# Altium integrated library ON Semi Signal Management Data Switches.IntLib: 121 symbols (part 3 of 4)
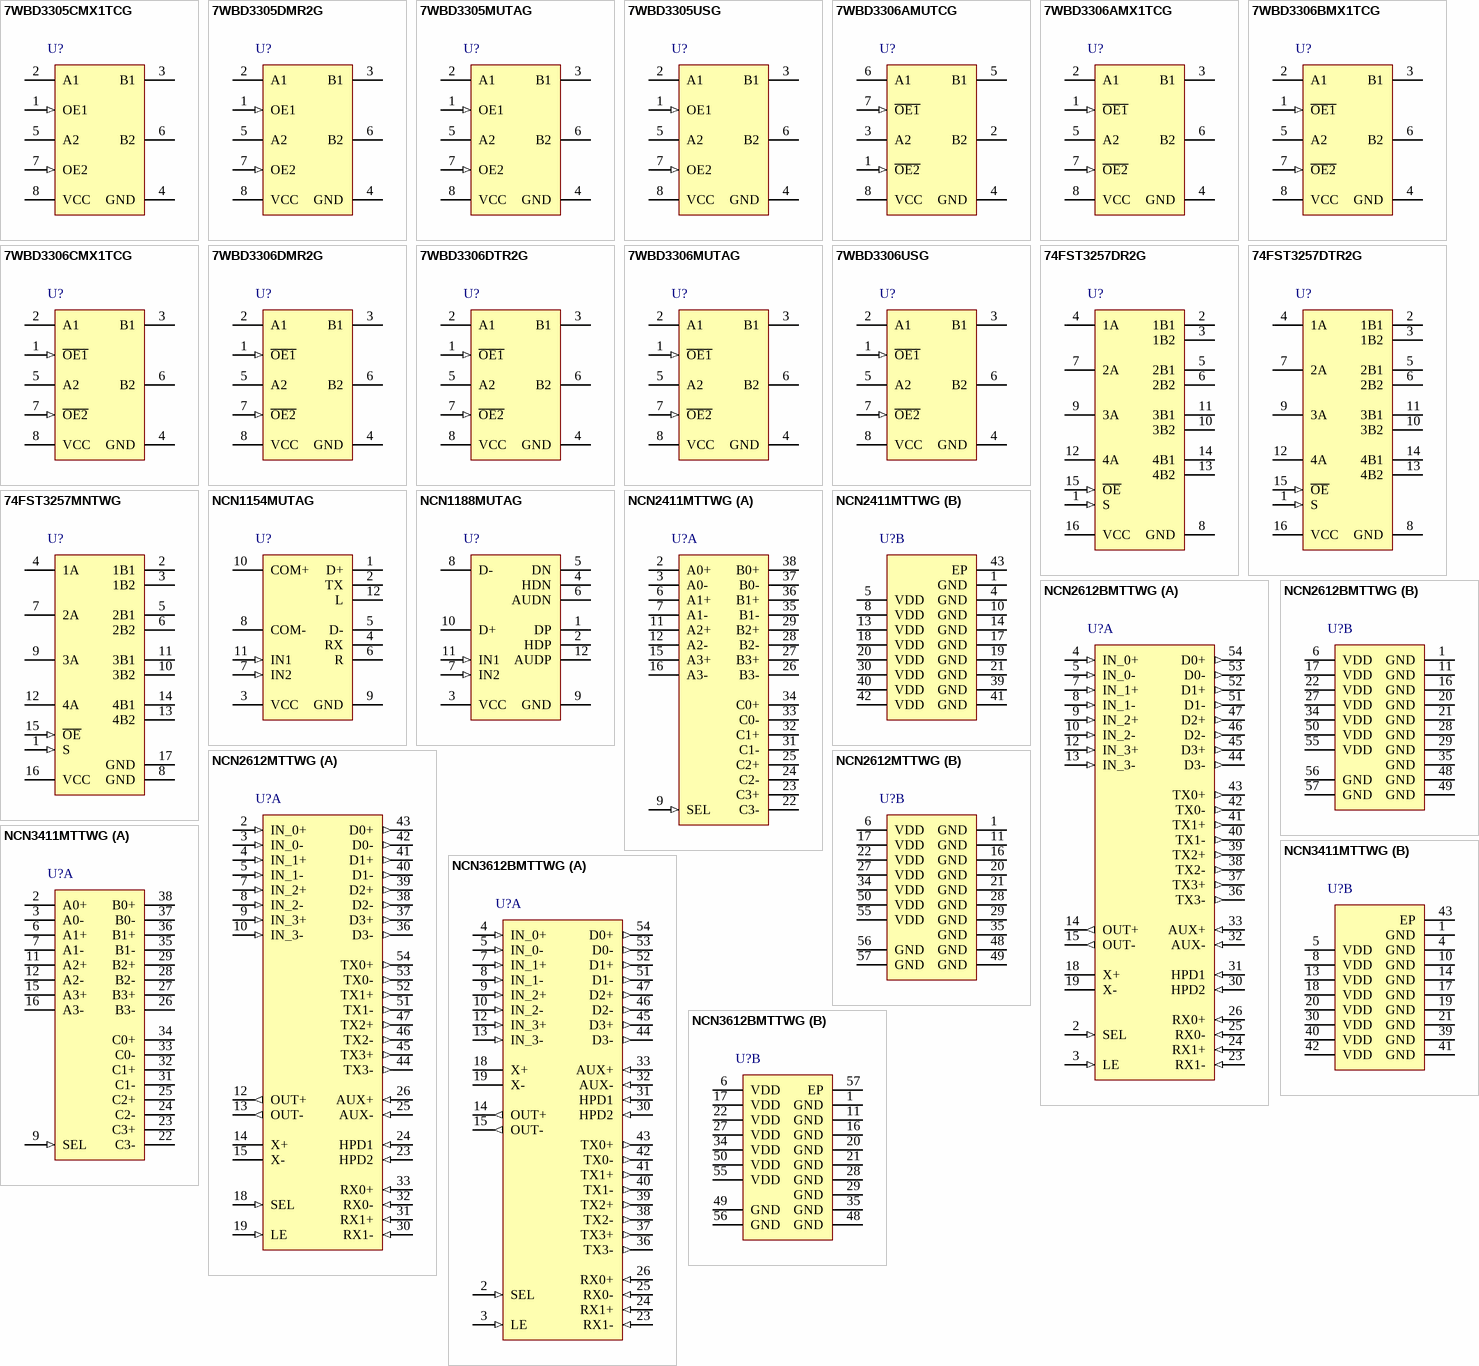
[diagram p5: symbols 7WBD3305CMX1TCG to NCN3612BMTTWG]

## 74FST3257DR2G
designator U?
Quad 2:1 Multiplexer / Demultiplexer Bus Switch, 4 to 5.5 V, -40 to 85 degC, 16-Pin SOIC, Pb-Free, Tape and Reel; Manufacturer: On Semiconductor; PartNumber: 74FST3257DR2G; Icc Max (uA): 3; VCC Max (V): 5.5; VCC Min (V): 4; DatasheetVersion: Rev. 7; PackageVersion: Rev. K, 12/2006; PackageReference: SOIC-16-751B-05; PackageDescription: 16-Pin Small Outline Integrated Circuit, Body 9.9 x 3.9 mm, Pitch 1.27 mm; Supplier 1: Digi-Key; Supplier Part Number 1: 74FST3257DR2GOSTR-ND; Supplier 2: Digi-Key; Supplier Part Number 2: 74FST3257DR2GOSCT-ND; Supplier 3: Digi-Key; Supplier Part Number 3: 74FST3257DR2GOSDKR-ND; Supplier 4: Newark; Supplier Part Number 4: 70K7573; Supplier 5: Mouser; Supplier Part Number 5: 863-74FST3257DR2G; Packing: Tape and Reel; RoHS: TRUE; Mounting Technology: Surface Mount; ComponentLink1Description: Manufacturer URL; ComponentLink1URL: http://www.onsemi.com/; ComponentLink2Description: Datasheet; ComponentLink2URL: http://www.onsemi.com/pub_link/Collateral/74FST3257-D.PDF; ComponentLink3Description: Package Specification; ComponentLink3URL: http://www.onsemi.com/pub_link/Collateral/751B-05.PDF
footprint ONSC-SOIC-16-751B-05_V (SOIC, 16-Leads, Body 10x4mm, Pitch 1.27mm)
pins: 1 S (in) "Select Input", 2 1B1 "Bus B", 3 1B2 "Bus B", 4 1A "Bus A", 5 2B1 "Bus B", 6 2B2 "Bus B", 7 2A "Bus A", 8 GND (power), 9 3A "Bus A", 10 3B2 "Bus B", 11 3B1 "Bus B", 12 4A "Bus A", 13 4B2 "Bus B", 14 4B1 "Bus B", 15 ~{OE} (in) "Bus Switch Enable", 16 VCC (power)

## 74FST3257DTR2G
designator U?
Quad 2:1 Multiplexer / Demultiplexer Bus Switch, 4 to 5.5 V, -40 to 85 degC, 16-Pin TSSOP, Pb-Free, Tape and Reel; Manufacturer: On Semiconductor; PartNumber: 74FST3257DTR2G; Icc Max (uA): 3; VCC Max (V): 5.5; VCC Min (V): 4; DatasheetVersion: Rev. 7; PackageVersion: Rev. B, 10/2006; PackageReference: TSSOP-16-948F-01; PackageDescription: 16-Pin Small Outline Package, Body 5 x 4.4 mm, Pitch 0.65 mm; Supplier 1: Digi-Key; Supplier Part Number 1: 74FST3257DTR2GOSTR-ND; Supplier 2: Digi-Key; Supplier Part Number 2: 74FST3257DTR2GOSCT-ND; Supplier 3: Digi-Key; Supplier Part Number 3: 74FST3257DTR2GOSDKR-ND; Supplier 4: Newark; Supplier Part Number 4: 70K7574; Supplier 5: Mouser; Supplier Part Number 5: 863-74FST3257DTR2G; Packing: Tape and Reel; RoHS: TRUE; Mounting Technology: Surface Mount; ComponentLink1Description: Manufacturer URL; ComponentLink1URL: http://www.onsemi.com/; ComponentLink2Description: Datasheet; ComponentLink2URL: http://www.onsemi.com/pub_link/Collateral/74FST3257-D.PDF; ComponentLink3Description: Package Specification; ComponentLink3URL: http://www.onsemi.com/pub_link/Collateral/948F-01.PDF
footprint ONSC-TSSOP-16-948F-01_V (SOP, 16-Leads, Body 5.1x4.5mm, Pitch 0.65mm)
pins: 1 S (in) "Select Input", 2 1B1 "Bus B", 3 1B2 "Bus B", 4 1A "Bus A", 5 2B1 "Bus B", 6 2B2 "Bus B", 7 2A "Bus A", 8 GND (power), 9 3A "Bus A", 10 3B2 "Bus B", 11 3B1 "Bus B", 12 4A "Bus A", 13 4B2 "Bus B", 14 4B1 "Bus B", 15 ~{OE} (in) "Bus Switch Enable", 16 VCC (power)

## 74FST3257MNTWG
designator U?
Quad 2:1 Multiplexer / Demultiplexer Bus Switch, 4 to 5.5 V, -40 to 85 degC, 16-Pin QFN , Pb-Free, Tape and Reel; Manufacturer: On Semiconductor; PartNumber: 74FST3257MNTWG; Icc Max (uA): 3; VCC Max (V): 5.5; VCC Min (V): 4; DatasheetVersion: Rev. 7; PackageVersion: Rev. O, 12/2008; PackageReference: QFN-16-485AW-01; PackageDescription: 16-Pin Quad Flat No-Lead, Body 2.5 x 3.5 mm, Pitch 0.5 mm; Supplier 1: Digi-Key; Supplier Part Number 1: 74FST3257MNTWG-ND; Supplier 2: Mouser; Supplier Part Number 2: 863-74FST3257MNTWG; Packing: Tape and Reel; RoHS: TRUE; Mounting Technology: Surface Mount; ComponentLink1Description: Manufacturer URL; ComponentLink1URL: http://www.onsemi.com/; ComponentLink2Description: Datasheet; ComponentLink2URL: http://www.onsemi.com/pub_link/Collateral/74FST3257-D.PDF; ComponentLink3Description: Package Specification; ComponentLink3URL: http://www.onsemi.com/pub_link/Collateral/485AW.PDF
footprint ONSC-QFN-16-485AW-01_V (QFN, 16-Leads, Body 3.5x2.5mm, Pitch 0.5mm, Thermal Pad 1.1x2.1mm)
pins: 1 S (in) "Select Input", 2 1B1 "Bus B", 3 1B2 "Bus B", 4 1A "Bus A", 5 2B1 "Bus B", 6 2B2 "Bus B", 7 2A "Bus A", 8 GND (power), 9 3A "Bus A", 10 3B2 "Bus B", 11 3B1 "Bus B", 12 4A "Bus A", 13 4B2 "Bus B", 14 4B1 "Bus B", 15 ~{OE} (in) "Bus Switch Enable", 16 VCC (power), 17 GND (power)

## NCN1154MUTAG
designator U?
USB 2.0 High Speed, UART and Audio Switch with Negative Signal Capability, 2.7 to 5 V, -40 to 85 degC, 12-Pin UQFN, Pb-Free, Tape and Reel; Manufacturer: On Semiconductor; PartNumber: NCN1154MUTAG; Icc Max (uA): 35; VCC Max (V): 5; VCC Min (V): 2.7; DatasheetVersion: Rev. 4; PackageVersion: Rev. A, 06/2007; PackageReference: UQFN-12-523AE-01; PackageDescription: 12-Pin Quad Flat No-Lead, Body 1.7 x 2 mm, Pitch 0.4 mm; Supplier 1: Digi-Key; Supplier Part Number 1: NCN1154MUTAGOSTR-ND; Supplier 2: Digi-Key; Supplier Part Number 2: NCN1154MUTAGOSCT-ND; Supplier 3: Digi-Key; Supplier Part Number 3: NCN1154MUTAGOSDKR-ND; Supplier 4: Mouser; Supplier Part Number 4: 863-NCN1154MUTAG; Packing: Tape and Reel; RoHS: TRUE; Mounting Technology: Surface Mount; ComponentLink1Description: Manufacturer URL; ComponentLink1URL: http://www.onsemi.com/; ComponentLink2Description: Datasheet; ComponentLink2URL: http://www.onsemi.com/pub_link/Collateral/NCN1154-D.PDF; ComponentLink3Description: Package Specification; ComponentLink3URL: http://www.onsemi.com/pub_link/Collateral/523AE.PDF
footprint ONSC-UQFN-12-523AE-01_V (QFN, 12-Leads, Body 2x1.7mm, Pitch 0.4mm)
pins: 1 D+ "Positive Data Line for USB Signals", 2 TX "Transmit Data Line for UART Signals", 3 VCC (power) "Power Supply", 4 RX "Receive Data Line for UART Signals", 5 D- "Negative Data Line for USB Signals", 6 R "Right Line for Audio Signals", 7 IN2 (in) "Control Input Select Line", 8 COM- "Right Audio / Negative Data Common Line", 9 GND (power) "Ground", 10 COM+ "Left Audio / Positive Data Common Line", 11 IN1 (in) "Control Input Select Line", 12 L "Right Line for Audio Signals"

## NCN1188MUTAG
designator U?
3:1 High Speed USB Switch with Audio and MHL Capability, 2.7 to 5.5 V, -40 to 85 degC, 12-Pin UQFN, Pb-Free, Tape and Reel; Manufacturer: On Semiconductor; PartNumber: NCN1188MUTAG; Icc Max (uA): 35; VCC Max (V): 5.5; VCC Min (V): 2.7; DatasheetVersion: Rev. 3; PackageVersion: Rev. A, 06/2007; PackageReference: UQFN-12-523AE-01; PackageDescription: 12-Pin Quad Flat No-Lead, Body 1.7 x 2 mm, Pitch 0.4 mm; Supplier 1: Digi-Key; Supplier Part Number 1: NCN1188MUTAGOSTR-ND; Supplier 2: Digi-Key; Supplier Part Number 2: NCN1188MUTAGOSCT-ND; Supplier 3: Digi-Key; Supplier Part Number 3: NCN1188MUTAGOSDKR-ND; Supplier 4: Newark; Supplier Part Number 4: 76T6308; Supplier 5: Mouser; Supplier Part Number 5: 863-NCN1188MUTAG; Packing: Tape and Reel; RoHS: TRUE; Mounting Technology: Surface Mount; ComponentLink1Description: Manufacturer URL; ComponentLink1URL: http://www.onsemi.com/; ComponentLink2Description: Datasheet; ComponentLink2URL: http://www.onsemi.com/pub_link/Collateral/NCN1188-D.PDF; ComponentLink3Description: Package Specification; ComponentLink3URL: http://www.onsemi.com/pub_link/Collateral/523AE.PDF
footprint ONSC-UQFN-12-523AE-01_V (QFN, 12-Leads, Body 2x1.7mm, Pitch 0.4mm)
pins: 1 DP "USB Positive Path. If active, this pin is connected to D+ pin.", 2 HDP "HD Positive Path. If active, this pin is connected to D+ pin.", 3 VCC (power) "Analog Supply. This pin is the analog and digital supply of the device. A 100 nF ceramic capacitor or larger must bypass this input to the ground. This capacitor should be placed as close a possible to this input.", 4 HDN "HD Negative Path. If active, this pin is connected to D? pin.", 5 DN "USB Negative Path. If active, this pin is connected to D? pin.", 6 AUDN "Audio N. If active, this pin is connected to D? pin.", 7 IN2 (in) "Input Selection 2. Do not float this pin.", 8 D- "Negative data line. Must be connected to the D? pin of USB receptacle.", 9 GND (power) "Ground Reference. Must be connected to the system ground.", 10 D+ "Positive data line. Must be connected to the D+ pin of USB receptacle.", 11 IN1 (in) "Input Selection 1. Do not float this pin.", 12 AUDP "Audio P. If active, this pin is connected to D+ pin."

## NCN2411MTTWG
designator U?
4-Channel Differential 1:2 Mux / Demux Switch for PCI Express Gen2, 1.5 to 2 V, -40 to 85 degC, 42-Pin WQFN, Pb-Free, Tape and Reel; Manufacturer: On Semiconductor; PartNumber: NCN2411MTTWG; Icc Max (uA): 300; VCC Max (V): 2; VCC Min (V): 1.5; DatasheetVersion: Rev. 0; PackageVersion: Rev. O, 02/2010; PackageReference: WQFN-42-510AP-01; PackageDescription: 42-Pin Quad Flat No-Lead, Body 3.5 x 9 mm, Pitch 0.5 mm; Supplier 1: Digi-Key; Supplier Part Number 1: NCN2411MTTWG-ND; Supplier 2: Newark; Supplier Part Number 2: 76T6309; Supplier 3: Mouser; Supplier Part Number 3: 863-NCN2411MTTWG; Packing: Tape and Reel; RoHS: TRUE; Mounting Technology: Surface Mount; ComponentLink1Description: Manufacturer URL; ComponentLink1URL: http://www.onsemi.com/; ComponentLink2Description: Datasheet; ComponentLink2URL: http://www.onsemi.com/pub_link/Collateral/NCN2411-D.PDF; ComponentLink3Description: Package Specification; ComponentLink3URL: http://www.onsemi.com/pub_link/Collateral/510AP.PDF
footprint ONSC-WQFN-42-510AP-01_V (QFN, 42-Leads, Body 9x3.5mm, Pitch 0.5mm, Thermal Pad 2.16x7.66mm)
part A pins: 2 A0+ "Signal I/O, Channel 0, Port A", 3 A0- "Signal I/O, Channel 0, Port A", 6 A1+ "Signal I/O, Channel 1, Port A", 7 A1- "Signal I/O, Channel 1, Port A", 9 SEL (in) "Operational Mode Select (When SEL = 0: A ¡ú B, When SEL = 1: A ¡ú C) Do not float this pin.", 11 A2+ "Signal I/O, Channel 2, Port A", 12 A2- "Signal I/O, Channel 2, Port A", 15 A3+ "Signal I/O, Channel 3, Port A", 16 A3- "Signal I/O, Channel 3, Port A", 22 C3- "Signal I/O, Channel 3, Port C", 23 C3+ "Signal I/O, Channel 3, Port C", 24 C2- "Signal I/O, Channel 2, Port C", 25 C2+ "Signal I/O, Channel 2, Port C", 26 B3- "Signal I/O, Channel 3, Port B", 27 B3+ "Signal I/O, Channel 3, Port B", 28 B2- "Signal I/O, Channel 2, Port B", 29 B2+ "Signal I/O, Channel 2, Port B", 31 C1- "Signal I/O, Channel 1, Port C", 32 C1+ "Signal I/O, Channel 1, Port C", 33 C0- "Signal I/O, Channel 0, Port C", 34 C0+ "Signal I/O, Channel 0, Port C", 35 B1- "Signal I/O, Channel 1, Port B", 36 B1+ "Signal I/O, Channel 1, Port B", 37 B0- "Signal I/O, Channel 0, Port B", 38 B0+ "Signal I/O, Channel 0, Port B"
part B pins: 1 GND (power) "Power Ground", 4 GND (power) "Power Ground", 5 VDD (power) "DC Supply: 1.5 V to 2.0 V", 8 VDD (power) "DC Supply: 1.5 V to 2.0 V", 10 GND (power) "Power Ground", 13 VDD (power) "DC Supply: 1.5 V to 2.0 V", 14 GND (power) "Power Ground", 17 GND (power) "Power Ground", 18 VDD (power) "DC Supply: 1.5 V to 2.0 V", 19 GND (power) "Power Ground", 20 VDD (power) "DC Supply: 1.5 V to 2.0 V", 21 GND (power) "Power Ground", 30 VDD (power) "DC Supply: 1.5 V to 2.0 V", 39 GND (power) "Power Ground", 40 VDD (power) "DC Supply: 1.5 V to 2.0 V", 41 GND (power) "Power Ground", 42 VDD (power) "DC Supply: 1.5 V to 2.0 V", 43 EP (power) "The exposed pad on the backside of package is internally connected to GND. Externally the pad should also be user?connected to GND."

## NCN2612BMTTWG
designator U?
6-Channel Differential 1:2 Switch for PCIe 2 and Display Port 1.1, 3 to 3.6 V, -40 to 85 degC, 56-Pin WQFN, Pb-Free, Tape and Reel; Manufacturer: On Semiconductor; PartNumber: NCN2612BMTTWG; Icc Max (uA): 350; VCC Max (V): 3.6; VCC Min (V): 3; DatasheetVersion: Rev. 0; PackageVersion: Rev. A, 03/2010; PackageReference: WQFN-56-510AK-01; PackageDescription: 56-Pin Quad Flat No-Lead, Body 5 x 11 mm, Pitch 0.5 mm; Supplier 1: Digi-Key; Supplier Part Number 1: NCN2612BMTTWG-ND; Supplier 2: Mouser; Supplier Part Number 2: 863-NCN2612BMTTWG; Packing: Tape and Reel; RoHS: TRUE; Mounting Technology: Surface Mount; ComponentLink1Description: Manufacturer URL; ComponentLink1URL: http://www.onsemi.com/; ComponentLink2Description: Datasheet; ComponentLink2URL: http://www.onsemi.com/pub_link/Collateral/NCN2612B-D.PDF; ComponentLink3Description: Package Specification; ComponentLink3URL: http://www.onsemi.com/pub_link/Collateral/510AK.PDF
footprint ONSC-WQFN-56-510AK-01_V (QFN, 56-Leads, Body 11x5mm, Pitch 0.5mm, Thermal Pad 2.5x8.5mm)
part A pins: 2 SEL (in) "SEL controls the mux through a flow?through latch. Do not float this pin. SEL = 0 for PCIE Mode; SEL = 1 for DP Mode", 3 LE (in) "LE controls the latch gate. Do not float this pin", 4 IN_0+ (in) "Differential input from GMCH PCIE outputs. IN_0+ makes a differential pair with IN_0?.", 5 IN_0- (in) "Differential input from GMCH PCIE outputs. IN_0? makes a differential pair with IN_0+.", 7 IN_1+ (in) "Differential input from GMCH PCIE outputs. IN_1+ makes a differential pair with IN_1?.", 8 IN_1- (in) "Differential input from GMCH PCIE outputs. IN_1? makes a differential pair with IN_1+.", 9 IN_2+ (in) "Differential input from GMCH PCIE outputs. IN_2+ makes a differential pair with IN_2?.", 10 IN_2- (in) "Differential input from GMCH PCIE outputs. IN_2? makes a differential pair with IN_2+.", 12 IN_3+ (in) "Differential input from GMCH PCIE outputs. IN_3+ makes a differential pair with IN_3?.", 13 IN_3- (in) "Differential input from GMCH PCIE outputs. IN_3? makes a differential pair with IN_3+.", 14 OUT+ (out) "Pass?through output from AUX+ input when SEL = 1. Pass?through output from Rx0+ input when SEL = 0.", 15 OUT- (out) "Pass?through output from AUX? input when SEL = 1. Pass?through output from Rx0? input when SEL = 0.", 18 X+ "X+ is an analog pass?through output corresponding to Rx1+.", 19 X- "X? is an analog pass?through output corresponding to the Rx1? input. The path from Rx1? to X? must be matched with the path from Rx1+ to X+. X+ and X? form a differential pair when the pass?throug(See Datasheet)", 23 RX1- (in) "Differential input from PCIE connector or device. Rx1? makes a differential pair with Rx1+. Rx1? is passed through to the X? pin on the path that matches the Rx1+ to X+ pin.", 24 RX1+ (in) "Differential input from PCIE connector or device. Rx1+ makes a differential pair with Rx1?. Rx1+ is passed through to the X+ pin when SEL = 0.", 25 RX0- (in) "Differential input from PCIE connector or device. Rx0? makes a differential pair with Rx0+. Rx0? is passed through to the OUT? pin when SEL = 0.", 26 RX0+ (in) "Differential input from PCIE connector or device. Rx0+ makes a differential pair with Rx0?. Rx0+ is passed through to the OUT+ pin when SEL = 0.", 30 HPD2 (in) "Negative low frequency HPD input handshake protocol signal (normally not connected).", 31 HPD1 (in) "Positive low frequency HPD input handshake protocol signal.", 32 AUX- (in) "Differential input from HDMI/DP connector. AUX? makes a differential pair with AUX+. AUX? is passed through to the OUT? pin when SEL = 1.", 33 AUX+ (in) "Differential input from HDMI/DP connector. AUX+ makes a differential pair with AUX?. AUX+ is passed through to the OUT+ pin when SEL = 1.", 36 TX3- (out) "Analog pass?through output#2 corresponding to IN_3+ and IN_3? when SEL = 0.", 37 TX3+ (out) "Analog pass?through output#2 corresponding to IN_3+ and IN_3? when SEL = 0.", 38 TX2- (out) "Analog pass?through output#2 corresponding to IN_2+ and IN_2? when SEL = 0.", 39 TX2+ (out) "Analog pass?through output#2 corresponding to IN_2+ and IN_2? when SEL = 0.", 40 TX1- (out) "Analog pass?through output#2 corresponding to IN_1+ and IN_1? when SEL = 0.", 41 TX1+ (out) "Analog pass?through output#2 corresponding to IN_1+ and IN_1? when SEL = 0.", 42 TX0- (out) "Analog pass?through output#2 corresponding to IN_0+ and IN_0? when SEL = 0.", 43 TX0+ (out) "Analog pass?through output#2 corresponding to IN_0+ and IN_0? when SEL = 0.", 44 D3- (out) "Analog pass?through output#1 corresponding to IN_3+ and IN_3?, when SEL = 1.", 45 D3+ (out) "Analog pass?through output#1 corresponding to IN_3+ and IN_3?, when SEL = 1.", 46 D2- (out) "Analog pass?through output#1 corresponding to IN_2+ and IN_2?, when SEL = 1.", 47 D2+ (out) "Analog pass?through output#1 corresponding to IN_2+ and IN_2?, when SEL = 1.", 51 D1- (out) "Analog pass?through output#1 corresponding to IN_1+ and IN_1?, when SEL = 1.", 52 D1+ (out) "Analog pass?through output#1 corresponding to IN_1+ and IN_1?, when SEL = 1.", 53 D0- (out) "Analog pass?through output#1 corresponding to IN_0+ and IN_0?, when SEL = 1.", 54 D0+ (out) "Analog pass?through output#1 corresponding to IN_0+ and IN_0?, when SEL = 1."
part B pins: 1 GND (power) "Power Ground.", 6 VDD (power) "DC Supply, 3.3 V+/-10%", 11 GND (power) "Power Ground.", 16 GND (power) "Power Ground.", 17 VDD (power) "DC Supply, 3.3 V+/-10%", 20 GND (power) "Power Ground.", 21 GND (power) "Power Ground.", 22 VDD (power) "DC Supply, 3.3 V+/-10%", 27 VDD (power) "DC Supply, 3.3 V+/-10%", 28 GND (power) "Power Ground.", 29 GND (power) "Power Ground.", 34 VDD (power) "DC Supply, 3.3 V+/-10%", 35 GND (power) "Power Ground.", 48 GND (power) "Power Ground.", 49 GND (power) "Power Ground.", 50 VDD (power) "DC Supply, 3.3 V+/-10%", 55 VDD (power) "DC Supply, 3.3 V+/-10%", 56 GND (power) "Power Ground.", 57 GND (power) "The exposed pad on the backside of package is internally connected to Gnd. Externally the exposed pad should also be user?connected to GND."

## NCN2612MTTWG
designator U?
6-Differential Channel 1:2 Switch for PCIe 2 and Display Port 1.1, 3 to 3.6 V, -40 to 85 degC, 56-Pin WQFN, Pb-Free, Tape and Reel; Manufacturer: On Semiconductor; PartNumber: NCN2612MTTWG; Icc Max (uA): 500; VCC Max (V): 3.6; VCC Min (V): 3; DatasheetVersion: Rev. 1; PackageVersion: Rev. A, 03/2010; PackageReference: WQFN-56-510AK-01; PackageDescription: 56-Pin Quad Flat No-Lead, Body 5 x 11 mm, Pitch 0.5 mm; Supplier 1: Digi-Key; Supplier Part Number 1: NCN2612MTTWG-ND; Supplier 2: Mouser; Supplier Part Number 2: 863-NCN2612MTTWG; Packing: Tape and Reel; RoHS: TRUE; Mounting Technology: Surface Mount; ComponentLink1Description: Manufacturer URL; ComponentLink1URL: http://www.onsemi.com/; ComponentLink2Description: Datasheet; ComponentLink2URL: http://www.onsemi.com/pub_link/Collateral/NCN2612-D.PDF; ComponentLink3Description: Package Specification; ComponentLink3URL: http://www.onsemi.com/pub_link/Collateral/510AK.PDF
footprint ONSC-WQFN-56-510AK-01_V (QFN, 56-Leads, Body 11x5mm, Pitch 0.5mm, Thermal Pad 2.5x8.5mm)
part A pins: 2 IN_0+ (in) "Differential input from GMCH PCIE outputs. IN_0+ makes a differential pair with IN_0?.", 3 IN_0- (in) "Differential input from GMCH PCIE outputs. IN_0? makes a differential pair with IN_0+.", 4 IN_1+ (in) "Differential input from GMCH PCIE outputs. IN_1+ makes a differential pair with IN_1?.", 5 IN_1- (in) "Differential input from GMCH PCIE outputs. IN_1? makes a differential pair with IN_1+.", 7 IN_2+ (in) "Differential input from GMCH PCIE outputs. IN_2+ makes a differential pair with IN_2?.", 8 IN_2- (in) "Differential input from GMCH PCIE outputs. IN_2? makes a differential pair with IN_2+.", 9 IN_3+ (in) "Differential input from GMCH PCIE outputs. IN_3+ makes a differential pair with IN_3?.", 10 IN_3- (in) "Differential input from GMCH PCIE outputs. IN_3? makes a differential pair with IN_3+.", 12 OUT+ (out) "Pass?through output from AUX+ input when SEL = 1. Pass?through output from Rx0+ input when SEL = 0.", 13 OUT- (out) "Pass?through output from AUX? input when SEL = 1. Pass?through output from Rx0? input when SEL = 0.", 14 X+ "X+ is an analog pass?through output corresponding to Rx1+.", 15 X- "X? is an analog pass?through output corresponding to the Rx1? input. The path from Rx1? to X? must be matched with the path from Rx1+ to X+. X+ and X? form a differential pair when the pass?throug(See Datasheet)", 18 SEL (in) "SEL controls the mux through a flow?through latch. SEL = 0 for PCIE Mode; SEL = 1 for DP Mode", 19 LE (in) "The latch gate is controlled by LE.", 23 HPD2 (in) "Negative low frequency HPD input handshake protocol signal (normally not connected).", 24 HPD1 (in) "Positive low frequency HPD input handshake protocol signal.", 25 AUX- (in) "Differential input from HDMI/DP connector. AUX? makes a differential pair with AUX+. AUX? is passed through to the OUT? pin when SEL = 1.", 26 AUX+ (in) "Differential input from HDMI/DP connector. AUX+ makes a differential pair with AUX?. AUX+ is passed through to the OUT+ pin when SEL = 1.", 30 RX1- (in) "Differential input from PCIE connector or device. Rx1? makes a differential pair with Rx1+. Rx1? is passed through to the X? pin on the path that matches the Rx1+ to X+ pin.", 31 RX1+ (in) "Differential input from PCIE connector or device. Rx1+ makes a differential pair with Rx1?. Rx1+ is passed through to the X+ pin when SEL = 0.", 32 RX0- (in) "Differential input from PCIE connector or device. Rx0? makes a differential pair with Rx0+. Rx0? is passed through to the OUT? pin when SEL = 0.", 33 RX0+ (in) "Differential input from PCIE connector or device. Rx0+ makes a differential pair with Rx0?. Rx0+ is passed through to the OUT+ pin when SEL = 0.", 36 D3- (out) "Analog pass?through output#1 corresponding to IN_3+ and IN_3?, when SEL = 1.", 37 D3+ (out) "Analog pass?through output#1 corresponding to IN_3+ and IN_3?, when SEL = 1.", 38 D2- (out) "Analog pass?through output#1 corresponding to IN_2+ and IN_2?, when SEL = 1.", 39 D2+ (out) "Analog pass?through output#1 corresponding to IN_2+ and IN_2?, when SEL = 1.", 40 D1- (out) "Analog pass?through output#1 corresponding to IN_1+ and IN_1?, when SEL = 1.", 41 D1+ (out) "Analog pass?through output#1 corresponding to IN_1+ and IN_1?, when SEL = 1.", 42 D0- (out) "Analog pass?through output#1 corresponding to IN_0+ and IN_0?, when SEL = 1.", 43 D0+ (out) "Analog pass?through output#1 corresponding to IN_0+ and IN_0?, when SEL = 1.", 44 TX3- (out) "Analog pass?through output#2 corresponding to IN_3+ and IN_3? when SEL = 0.", 45 TX3+ (out) "Analog pass?through output#2 corresponding to IN_3+ and IN_3? when SEL = 0.", 46 TX2- (out) "Analog pass?through output#2 corresponding to IN_2+ and IN_2? when SEL = 0.", 47 TX2+ (out) "Analog pass?through output#2 corresponding to IN_2+ and IN_2? when SEL = 0.", 51 TX1- (out) "Analog pass?through output#2 corresponding to IN_1+ and IN_1? when SEL = 0.", 52 TX1+ (out) "Analog pass?through output#2 corresponding to IN_1+ and IN_1? when SEL = 0.", 53 TX0- (out) "Analog pass?through output#2 corresponding to IN_0+ and IN_0? when SEL = 0.", 54 TX0+ (out) "Analog pass?through output#2 corresponding to IN_0+ and IN_0? when SEL = 0."
part B pins: 1 GND (power) "Power Ground.", 6 VDD (power) "DC Supply, 3.3 V+/-10%", 11 GND (power) "Power Ground.", 16 GND (power) "Power Ground.", 17 VDD (power) "DC Supply, 3.3 V+/-10%", 20 GND (power) "Power Ground.", 21 GND (power) "Power Ground.", 22 VDD (power) "DC Supply, 3.3 V+/-10%", 27 VDD (power) "DC Supply, 3.3 V+/-10%", 28 GND (power) "Power Ground.", 29 GND (power) "Power Ground.", 34 VDD (power) "DC Supply, 3.3 V+/-10%", 35 GND (power) "Power Ground.", 48 GND (power) "Power Ground.", 49 GND (power) "Power Ground.", 50 VDD (power) "DC Supply, 3.3 V+/-10%", 55 VDD (power) "DC Supply, 3.3 V+/-10%", 56 GND (power) "Power Ground.", 57 GND (power) "The exposed pad on the backside of package is internally connected to Gnd. Externally the exposed pad should also be user?connected to GND."

## NCN3411MTTWG
designator U?
4-Differential Channel 1:2 Mux / Demux Switch for PCI Express Gen3, 1.5 to 2 V, -40 to 85 degC, 42-Pin WQFN, Pb-Free, Tape and Reel; Manufacturer: On Semiconductor; PartNumber: NCN3411MTTWG; Icc Max (uA): 300; VCC Max (V): 2; VCC Min (V): 1.5; DatasheetVersion: Rev. 0; PackageVersion: Rev. O, 02/2010; PackageReference: WQFN-42-510AP-01; PackageDescription: 42-Pin Quad Flat No-Lead, Body 3.5 x 9 mm, Pitch 0.5 mm; Supplier 1: Digi-Key; Supplier Part Number 1: NCN3411MTTWG-ND; Supplier 2: Mouser; Supplier Part Number 2: 863-NCN3411MTTWG; Packing: Tape and Reel; RoHS: TRUE; Mounting Technology: Surface Mount; ComponentLink1Description: Manufacturer URL; ComponentLink1URL: http://www.onsemi.com/; ComponentLink2Description: Datasheet; ComponentLink2URL: http://www.onsemi.com/pub_link/Collateral/NCN3411-D.PDF; ComponentLink3Description: Package Specification; ComponentLink3URL: http://www.onsemi.com/pub_link/Collateral/510AP.PDF
footprint ONSC-WQFN-42-510AP-01_V (QFN, 42-Leads, Body 9x3.5mm, Pitch 0.5mm, Thermal Pad 2.16x7.66mm)
part A pins: 2 A0+ "Signal I/O, Channel 0, Port A", 3 A0- "Signal I/O, Channel 0, Port A", 6 A1+ "Signal I/O, Channel 1, Port A", 7 A1- "Signal I/O, Channel 1, Port A", 9 SEL (in) "Operational Mode Select (When SEL = 0: A ¡ú B, When SEL = 1: A ¡ú C)", 11 A2+ "Signal I/O, Channel 2, Port A", 12 A2- "Signal I/O, Channel 2, Port A", 15 A3+ "Signal I/O, Channel 3, Port A", 16 A3- "Signal I/O, Channel 3, Port A", 22 C3- "Signal I/O, Channel 3, Port C", 23 C3+ "Signal I/O, Channel 3, Port C", 24 C2- "Signal I/O, Channel 2, Port C", 25 C2+ "Signal I/O, Channel 2, Port C", 26 B3- "Signal I/O, Channel 3, Port B", 27 B3+ "Signal I/O, Channel 3, Port B", 28 B2- "Signal I/O, Channel 2, Port B", 29 B2+ "Signal I/O, Channel 2, Port B", 31 C1- "Signal I/O, Channel 1, Port C", 32 C1+ "Signal I/O, Channel 1, Port C", 33 C0- "Signal I/O, Channel 0, Port C", 34 C0+ "Signal I/O, Channel 0, Port C", 35 B1- "Signal I/O, Channel 1, Port B", 36 B1+ "Signal I/O, Channel 1, Port B", 37 B0- "Signal I/O, Channel 0, Port B", 38 B0+ "Signal I/O, Channel 0, Port B"
part B pins: 1 GND (power) "Power Ground", 4 GND (power) "Power Ground", 5 VDD (power) "DC Supply: 1.5 V to 2.0 V", 8 VDD (power) "DC Supply: 1.5 V to 2.0 V", 10 GND (power) "Power Ground", 13 VDD (power) "DC Supply: 1.5 V to 2.0 V", 14 GND (power) "Power Ground", 17 GND (power) "Power Ground", 18 VDD (power) "DC Supply: 1.5 V to 2.0 V", 19 GND (power) "Power Ground", 20 VDD (power) "DC Supply: 1.5 V to 2.0 V", 21 GND (power) "Power Ground", 30 VDD (power) "DC Supply: 1.5 V to 2.0 V", 39 GND (power) "Power Ground", 40 VDD (power) "DC Supply: 1.5 V to 2.0 V", 41 GND (power) "Power Ground", 42 VDD (power) "DC Supply: 1.5 V to 2.0 V", 43 EP (power) "The exposed pad on the backside of package is internally connected to GND. Externally the pad should also be user?connected to GND."

## NCN3612BMTTWG
designator U?
6-Channel Differential 1:2 Switch for PCIe 3.0 and DisplayPort 1.2, 3 to 3.6 V, -40 to 85 degC, 56-Pin WQFN, Pb-Free, Tape and Reel; Manufacturer: On Semiconductor; PartNumber: NCN3612BMTTWG; Icc Max (uA): 350; VCC Max (V): 3.6; VCC Min (V): 3; DatasheetVersion: Rev. 0; PackageVersion: Rev. A, 03/2010; PackageReference: WQFN-56-510AK-01; PackageDescription: 56-Pin Quad Flat No-Lead, Body 5 x 11 mm, Pitch 0.5 mm; Supplier 1: Digi-Key; Supplier Part Number 1: NCN3612BMTTWG-ND; Supplier 2: Mouser; Supplier Part Number 2: 863-NCN3612BMTTWG; Packing: Tape and Reel; RoHS: TRUE; Mounting Technology: Surface Mount; ComponentLink1Description: Manufacturer URL; ComponentLink1URL: http://www.onsemi.com/; ComponentLink2Description: Datasheet; ComponentLink2URL: http://www.onsemi.com/pub_link/Collateral/NCN3612B-D.PDF; ComponentLink3Description: Package Specification; ComponentLink3URL: http://www.onsemi.com/pub_link/Collateral/510AK.PDF
footprint ONSC-WQFN-56-510AK-01_V (QFN, 56-Leads, Body 11x5mm, Pitch 0.5mm, Thermal Pad 2.5x8.5mm)
part A pins: 2 SEL (in) "SEL controls the mux through a flow?through latch. Do not float this pin. SEL = 0 for PCIE Mode; SEL = 1 for DP Mode", 3 LE (in) "LE controls the latch gate. Do not float this pin.", 4 IN_0+ (in) "Differential input from GMCH PCIE outputs. IN_0+ makes a differential pair with IN_0-.", 5 IN_0- (in) "Differential input from GMCH PCIE outputs. IN_0- makes a differential pair with IN_0+.", 7 IN_1+ (in) "Differential input from GMCH PCIE outputs. IN_1+ makes a differential pair with IN_1-.", 8 IN_1- (in) "Differential input from GMCH PCIE outputs. IN_1- makes a differential pair with IN_1+.", 9 IN_2+ (in) "Differential input from GMCH PCIE outputs. IN_2+ makes a differential pair with IN_2-.", 10 IN_2- (in) "Differential input from GMCH PCIE outputs. IN_2- makes a differential pair with IN_2+.", 12 IN_3+ (in) "Differential input from GMCH PCIE outputs. IN_3+ makes a differential pair with IN_3-.", 13 IN_3- (in) "Differential input from GMCH PCIE outputs. IN_3- makes a differential pair with IN_3+.", 14 OUT+ (out) "Pass?through output from AUX+ input when SEL = 1. Pass?through output from Rx0+ input when SEL = 0.", 15 OUT- (out) "Pass?through output from AUX? input when SEL = 1. Pass?through output from Rx0- input when SEL = 0.", 18 X+ "X+ is an analog pass-through output corresponding to Rx1+.", 19 X- "X- is an analog pass-through output corresponding to the Rx1- input. The path from Rx1- to X- must be matched with the path from Rx1+ to X+. X+ and X- form a differential pair when the pass-through mux mode is selected.", 23 RX1- (in) "Differential input from PCIE connector or device. Rx1- makes a differential pair with Rx1+. Rx1- is passed through to the X- pin on the path that matches the Rx1+ to X+ pin.", 24 RX1+ (in) "Differential input from PCIE connector or device. Rx1+ makes a differential pair with Rx1-. Rx1+ is passed through to the X+ pin when SEL = 0.", 25 RX0- (in) "Differential input from PCIE connector or device. Rx0- makes a differential pair with Rx0+. Rx0?-is passed through to the OUT- pin when SEL = 0.", 26 RX0+ (in) "Differential input from PCIE connector or device. Rx0+ makes a differential pair with Rx0-. Rx0+ is passed through to the OUT+ pin when SEL = 0.", 30 HPD2 (in) "Negative low frequency HPD input handshake protocol signal (normally not connected).", 31 HPD1 (in) "Positive low frequency HPD input handshake protocol signal.", 32 AUX- (in) "Differential input from HDMI/DP connector. AUX- makes a differential pair with AUX+. AUX? is passed through to the OUT- pin when SEL = 1.", 33 AUX+ (in) "Differential input from HDMI/DP connector. AUX+ makes a differential pair with AUX-. AUX+ is passed through to the OUT+ pin when SEL = 1.", 36 TX3- (out) "Analog pass?through output#2 corresponding to IN_3+ and IN_3- when SEL = 0.", 37 TX3+ (out) "Analog pass?through output#2 corresponding to IN_3+ and IN_3- when SEL = 0.", 38 TX2- (out) "Analog pass?through output#2 corresponding to IN_2+ and IN_2- when SEL = 0.", 39 TX2+ (out) "Analog pass?through output#2 corresponding to IN_2+ and IN_2- when SEL = 0.", 40 TX1- (out) "Analog pass?through output#2 corresponding to IN_1+ and IN_1- when SEL = 0.", 41 TX1+ (out) "Analog pass?through output#2 corresponding to IN_1+ and IN_1- when SEL = 0.", 42 TX0- (out) "Analog pass?through output#2 corresponding to IN_0+ and IN_0- when SEL = 0.", 43 TX0+ (out) "Analog pass?through output#2 corresponding to IN_0+ and IN_0- when SEL = 0.", 44 D3- (out) "Analog pass?through output#1 corresponding to IN_3+ and IN_3-, when SEL = 1.", 45 D3+ (out) "Analog pass?through output#1 corresponding to IN_3+ and IN_3-, when SEL = 1.", 46 D2- (out) "Analog pass?through output#1 corresponding to IN_2+ and IN_2-, when SEL = 1.", 47 D2+ (out) "Analog pass?through output#1 corresponding to IN_2+ and IN_2-, when SEL = 1.", 51 D1- (out) "Analog pass?through output#1 corresponding to IN_1+ and IN_1-, when SEL = 1.", 52 D1+ (out) "Analog pass?through output#1 corresponding to IN_1+ and IN_1-, when SEL = 1.", 53 D0- (out) "Analog pass?through output#1 corresponding to IN_0+ and IN_0-, when SEL = 1.", 54 D0+ (out) "Analog pass?through output#1 corresponding to IN_0+ and IN_0-, when SEL = 1."
part B pins: 1 GND (power) "Power Ground.", 6 VDD (power) "DC Supply, 3.3 V -/+ 10%", 11 GND (power) "Power Ground.", 16 GND (power) "Power Ground.", 17 VDD (power) "DC Supply, 3.3 V -/+ 10%", 20 GND (power) "Power Ground.", 21 GND (power) "Power Ground.", 22 VDD (power) "DC Supply, 3.3 V -/+ 10%", 27 VDD (power) "DC Supply, 3.3 V -/+ 10%", 28 GND (power) "Power Ground.", 29 GND (power) "Power Ground.", 34 VDD (power) "DC Supply, 3.3 V -/+ 10%", 35 GND (power) "Power Ground.", 48 GND (power) "Power Ground.", 49 GND (power) "Power Ground.", 50 VDD (power) "DC Supply, 3.3 V -/+ 10%", 55 VDD (power) "DC Supply, 3.3 V -/+ 10%", 56 GND (power) "Power Ground.", 57 EP (power) "The exposed pad on the backside of package is internally connected to Gnd. Externally the exposed pad should also be user?connected to GND."

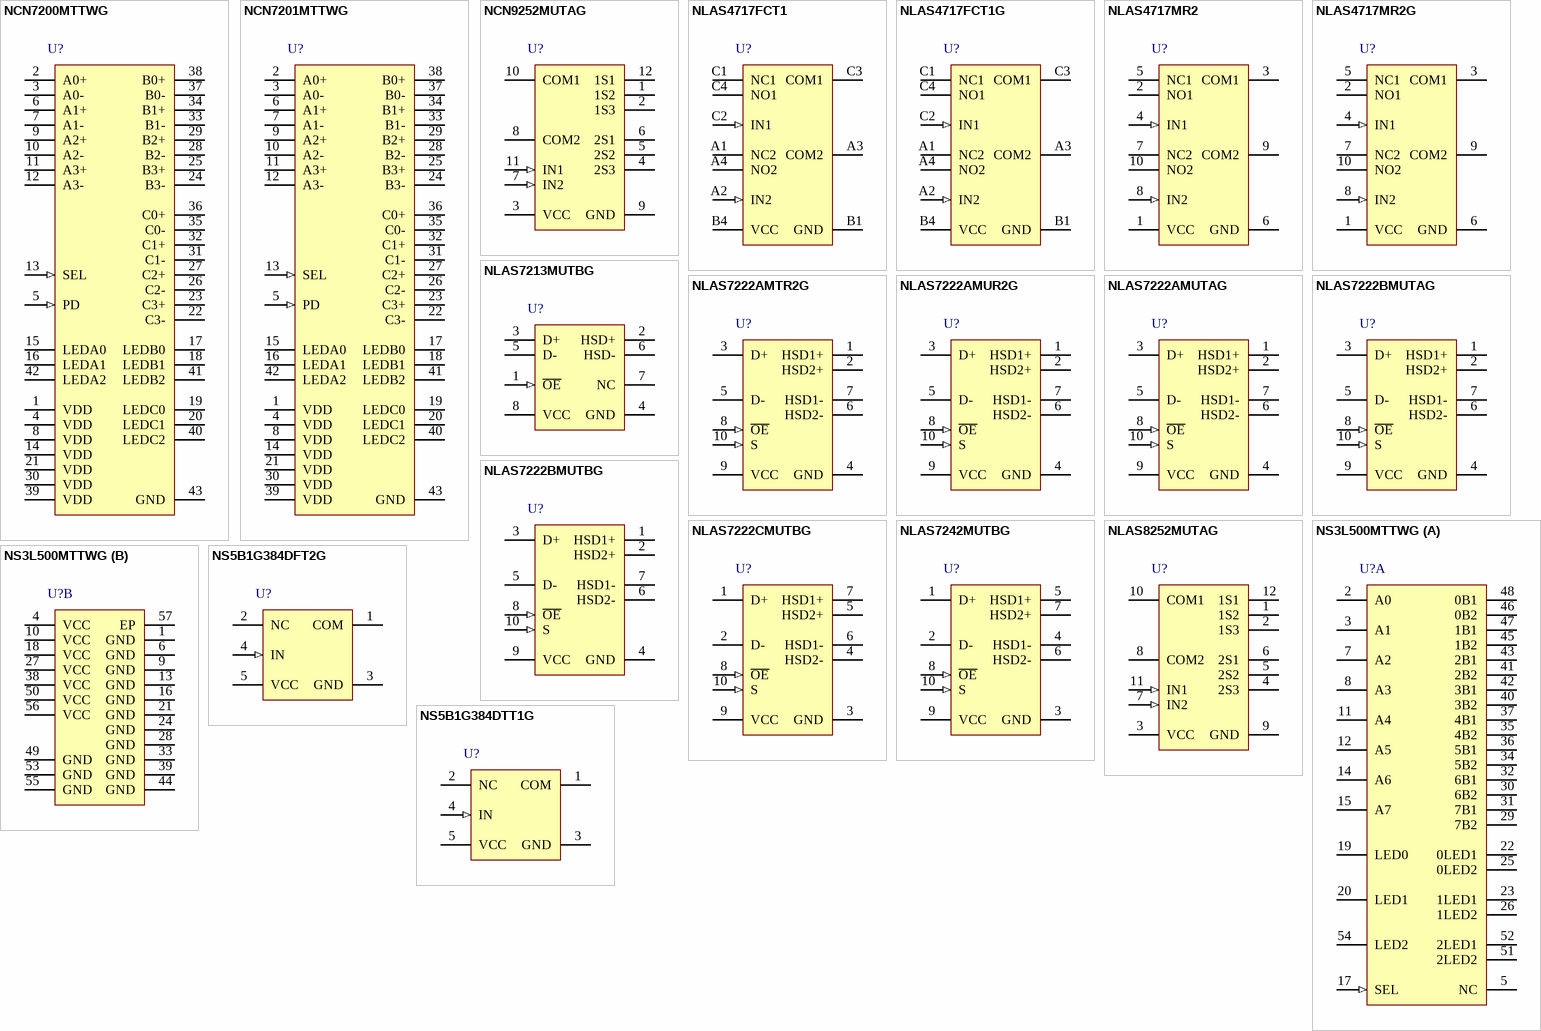
[diagram p3: symbols NCN7200MTTWG to NS5B1G384DTT1G]

## NCN7200MTTWG
designator U?
Gigabit Ethernet LAN Switch with 2:1 Mux / DeMux and Power-Down Feature, 3 to 3.6 V, -40 to 85 degC, 42-Pin WQFN, Pb-Free, Tape and Reel; Manufacturer: On Semiconductor; PartNumber: NCN7200MTTWG; Icc Max (uA): 450; VCC Max (V): 3.6; VCC Min (V): 3; DatasheetVersion: Rev. 2; PackageVersion: Rev. O, 02/2010; PackageReference: WQFN-42-510AP-01; PackageDescription: 42-Pin Quad Flat No-Lead, Body 3.5 x 9 mm, Pitch 0.5 mm; Supplier 1: Digi-Key; Supplier Part Number 1: NCN7200MTTWG-ND; Supplier 2: Newark; Supplier Part Number 2: 52T8206; Supplier 3: Mouser; Supplier Part Number 3: 863-NCN7200MTTWG; Packing: Tape and Reel; RoHS: TRUE; Mounting Technology: Surface Mount; ComponentLink1Description: Manufacturer URL; ComponentLink1URL: http://www.onsemi.com/; ComponentLink2Description: Datasheet; ComponentLink2URL: http://www.onsemi.com/pub_link/Collateral/NCN7200-D.PDF; ComponentLink3Description: Package Specification; ComponentLink3URL: http://www.onsemi.com/pub_link/Collateral/510AP.PDF
footprint ONSC-WQFN-42-510AP-01_V (QFN, 42-Leads, Body 9x3.5mm, Pitch 0.5mm, Thermal Pad 2.16x7.66mm)
pins: 1 VDD (power) "Power", 2 A0+ "Port A DeMux I/O", 3 A0- "Port A DeMux I/O", 4 VDD (power) "Power", 5 PD (in) "Powerdown, Active high, with internal pulldown resistor", 6 A1+ "Port A DeMux I/O", 7 A1- "Port A DeMux I/O", 8 VDD (power) "Power", 9 A2+ "Port A DeMux I/O", 10 A2- "Port A DeMux I/O", 11 A3+ "Port A DeMux I/O", 12 A3- "Port A DeMux I/O", 13 SEL (in) "Select", 14 VDD (power) "Power", 15 LEDA0 "LED I/O", 16 LEDA1 "LED I/O", 17 LEDB0 "LED I/O", 18 LEDB1 "LED I/O", 19 LEDC0 "LED I/O", 20 LEDC1 "LED I/O", 21 VDD (power) "Power", 22 C3- "Port C LED Mux I/O", 23 C3+ "Port C LED Mux I/O", 24 B3- "Port B Mux I/O", 25 B3+ "Port B Mux I/O", 26 C2- "Port C LED Mux I/O", 27 C2+ "Port C LED Mux I/O", 28 B2- "Port B Mux I/O", 29 B2+ "Port B Mux I/O", 30 VDD (power) "Power", 31 C1- "Port C LED Mux I/O", 32 C1+ "Port C LED Mux I/O", 33 B1- "Port B Mux I/O", 34 B1+ "Port B Mux I/O", 35 C0- "Port C LED Mux I/O", 36 C0+ "Port C LED Mux I/O", 37 B0- "Port B Mux I/O", 38 B0+ "Port B Mux I/O", 39 VDD (power) "Power", 40 LEDC2 "LED I/O", 41 LEDB2 "LED I/O", 42 LEDA2 "LED I/O", 43 GND (power) "Ground"

## NCN7201MTTWG
designator U?
2:1 Gigabit Ethernet LAN Switch with Power-Down Feature, 3 to 3.6 V, -40 to 85 degC, 42-Pin WQFN, Pb-Free, Tape and Reel; Manufacturer: On Semiconductor; PartNumber: NCN7201MTTWG; Icc Max (uA): 450; VCC Max (V): 3.6; VCC Min (V): 3; DatasheetVersion: Rev. 2; PackageVersion: Rev. O, 02/2010; PackageReference: WQFN-42-510AP-01; PackageDescription: 42-Pin Quad Flat No-Lead, Body 3.5 x 9 mm, Pitch 0.5 mm; Supplier 1: Newark; Supplier Part Number 1: 72W2170; Supplier 2: Mouser; Supplier Part Number 2: 863-NCN7201MTTWG; Packing: Tape and Reel; RoHS: TRUE; Mounting Technology: Surface Mount; ComponentLink1Description: Manufacturer URL; ComponentLink1URL: http://www.onsemi.com/; ComponentLink2Description: Datasheet; ComponentLink2URL: http://www.onsemi.com/pub_link/Collateral/NCN7201-D.PDF; ComponentLink3Description: Package Specification; ComponentLink3URL: http://www.onsemi.com/pub_link/Collateral/510AP.PDF
footprint ONSC-WQFN-42-510AP-01_V (QFN, 42-Leads, Body 9x3.5mm, Pitch 0.5mm, Thermal Pad 2.16x7.66mm)
pins: 1 VDD (power) "Power Supply Pin. It is recommended that a bypass capacitor of at least 0.1 uF is placed as close as possible to each VDD pin.", 2 A0+ "Data Port A. This is the common side of the data switch.", 3 A0- "Data Port A. This is the common side of the data switch.", 4 VDD (power) "Power Supply Pin. It is recommended that a bypass capacitor of at least 0.1 uF is placed as close as possible to each VDD pin.", 5 PD (in) "Power Down Pin. When PD is logic high, the device enters Power Down mode.All switch paths are high impedance. There is no internal pull?up or pull?down resistor; therefore, this pin cannot be floated.", 6 A1+ "Data Port A. This is the common side of the data switch.", 7 A1- "Data Port A. This is the common side of the data switch.", 8 VDD (power) "Power Supply Pin. It is recommended that a bypass capacitor of at least 0.1 uF is placed as close as possible to each VDD pin.", 9 A2+ "Data Port A. This is the common side of the data switch.", 10 A2- "Data Port A. This is the common side of the data switch.", 11 A3+ "Data Port A. This is the common side of the data switch.", 12 A3- "Data Port A. This is the common side of the data switch.", 13 SEL (in) "Channel Select Pin. When PD is logic low, the SEL pin controls whether the AX pins are connected to BX or CX. There is no internal pull?up or pull?down resistor; therefore, this pin cannot be floated.", 14 VDD (power) "Power Supply Pin. It is recommended that a bypass capacitor of at least 0.1 uF is placed as close as possible to each VDD pin.", 15 LEDA0 "LED Port A. This is the common side of the LED switch.", 16 LEDA1 "LED Port A. This is the common side of the LED switch.", 17 LEDB0 "LED Port B. This is a switchable port of the LED switch.", 18 LEDB1 "LED Port B. This is a switchable port of the LED switch.", 19 LEDC0 "LED Port C. This is a switchable port of the LED switch.", 20 LEDC1 "LED Port C. This is a switchable port of the LED switch.", 21 VDD (power) "Power Supply Pin. It is recommended that a bypass capacitor of at least 0.1 uF is placed as close as possible to each VDD pin.", 22 C3- "Data Port C. This is a switchable port of the data switch.", 23 C3+ "Data Port C. This is a switchable port of the data switch.", 24 B3- "Data Port B. This is a switchable port of the data switch.", 25 B3+ "Data Port B. This is a switchable port of the data switch.", 26 C2- "Data Port C. This is a switchable port of the data switch.", 27 C2+ "Data Port C. This is a switchable port of the data switch.", 28 B2- "Data Port B. This is a switchable port of the data switch.", 29 B2+ "Data Port B. This is a switchable port of the data switch.", 30 VDD (power) "Power Supply Pin. It is recommended that a bypass capacitor of at least 0.1 uF is placed as close as possible to each VDD pin.", 31 C1- "Data Port C. This is a switchable port of the data switch.", 32 C1+ "Data Port C. This is a switchable port of the data switch.", 33 B1- "Data Port B. This is a switchable port of the data switch.", 34 B1+ "Data Port B. This is a switchable port of the data switch.", 35 C0- "Data Port C. This is a switchable port of the data switch.", 36 C0+ "Data Port C. This is a switchable port of the data switch.", 37 B0- "Data Port B. This is a switchable port of the data switch.", 38 B0+ "Data Port B. This is a switchable port of the data switch.", 39 VDD (power) "Power Supply Pin. It is recommended that a bypass capacitor of at least 0.1 uF is placed as close as possible to each VDD pin.", 40 LEDC2 "LED Port C. This is a switchable port of the LED switch.", 41 LEDB2 "LED Port B. This is a switchable port of the LED switch.", 42 LEDA2 "LED Port A. This is the common side of the LED switch.", 43 GND (power) "Ground Supply. The exposed pad provides ground reference to the device."

## NCN9252MUTAG
designator U?
High-Speed USB 2.0 (480 Mbps) DP3T Switch for USB / UART / Data Multiplexing, 1.65 to 4.5 V, -40 to 85 degC, 12-Pin UQFN, Pb-Free, Tape and Reel; Manufacturer: On Semiconductor; PartNumber: NCN9252MUTAG; Icc Max (uA): 1; VCC Max (V): 4.5; VCC Min (V): 1.65; DatasheetVersion: Rev. 2; PackageVersion: Rev. A, 06/2007; PackageReference: UQFN-12-523AE-01; PackageDescription: 12-Pin Quad Flat No-Lead, Body 1.7 x 2 mm, Pitch 0.4 mm; Supplier 1: Digi-Key; Supplier Part Number 1: NCN9252MUTAGOSTR-ND; Supplier 2: Digi-Key; Supplier Part Number 2: NCN9252MUTAGOSCT-ND; Supplier 3: Digi-Key; Supplier Part Number 3: NCN9252MUTAGOSDKR-ND; Supplier 4: Newark; Supplier Part Number 4: 79R3491; Supplier 5: Mouser; Supplier Part Number 5: 863-NCN9252MUTAG; Packing: Tape and Reel; RoHS: TRUE; Mounting Technology: Surface Mount; ComponentLink1Description: Manufacturer URL; ComponentLink1URL: http://www.onsemi.com/; ComponentLink2Description: Datasheet; ComponentLink2URL: http://www.onsemi.com/pub_link/Collateral/NCN9252-D.PDF; ComponentLink3Description: Package Specification; ComponentLink3URL: http://www.onsemi.com/pub_link/Collateral/523AE.PDF
footprint ONSC-UQFN-12-523AE-01_V (QFN, 12-Leads, Body 2x1.7mm, Pitch 0.4mm)
pins: 1 1S2 "Switch #1 Position 2 Signal Line", 2 1S3 "Switch #1 Position 3 Signal Line", 3 VCC (power) "Power Supply", 4 2S3 "Switch #2 Position 3 Signal Line", 5 2S2 "Switch #2 Position 2 Signal Line", 6 2S1 "Switch #2 Position 1 Signal Line", 7 IN2 (in) "Bit 1 Control Input Select Line", 8 COM2 "Switch #2 Common Signal Line", 9 GND (power) "Ground", 10 COM1 "Switch #1 Common Signal Line", 11 IN1 (in) "Bit 0 Control Input Select Line", 12 1S1 "Switch #1 Position 1 Signal Line"

## NLAS4717FCT1
designator U?
4.5 Ohm High Bandwidth, Dual SPDT Analog Switch, 1.8 to 5.5 V, -40 to 85 degC, 10-Pin FLIP-CHIP, Tape and Reel; Manufacturer: On Semiconductor; PartNumber: NLAS4717FCT1; Icc Max (uA): 1; VCC Max (V): 5.5; VCC Min (V): 1.8; DatasheetVersion: Rev. 9; PackageVersion: Rev. A, 05/2004; PackageReference: FLIP-CHIP-10-489AA-01; PackageDescription: 10-Ball Flip Chip Ball Grid Array, Body 1.965 x 1.465 mm, Pitch 0.5 mm; Supplier 1: Digi-Key; Supplier Part Number 1: NLAS4717FCT1-ND; Packing: Tape and Reel; RoHS: FALSE; Mounting Technology: Surface Mount; ComponentLink1Description: Manufacturer URL; ComponentLink1URL: http://www.onsemi.com/; ComponentLink2Description: Datasheet; ComponentLink2URL: http://www.onsemi.com/pub_link/Collateral/NLAS4717-D.PDF; ComponentLink3Description: Package Specification; ComponentLink3URL: http://www.onsemi.cn/pub_link/Collateral/489AA.PDF
footprint ONSC-FLIP-CHIP-10-489AA-01 (BGA, 10-Balls, Body 1.97x1.47mm, Pitch 0.5mm)
pins: A1 NC2, A2 IN2 (in), A3 COM2, A4 NO2, B1 GND (power), B4 VCC (power), C1 NC1, C2 IN1 (in), C3 COM1, C4 NO1

## NLAS4717FCT1G
designator U?
4.5 Ohm High Bandwidth, Dual SPDT Analog Switch, 1.8 to 5.5 V, -40 to 85 degC, 10-Pin FLIP-CHIP, Pb-Free, Tape and Reel; Manufacturer: On Semiconductor; PartNumber: NLAS4717FCT1G; Icc Max (uA): 1; VCC Max (V): 5.5; VCC Min (V): 1.8; DatasheetVersion: Rev. 9; PackageVersion: Rev. A, 05/2004; PackageReference: FLIP-CHIP-10-489AA-01; PackageDescription: 10-Ball Flip Chip Ball Grid Array, Body 1.965 x 1.465 mm, Pitch 0.5 mm; Supplier 1: Digi-Key; Supplier Part Number 1: NLAS4717FCT1GOSTR-ND; Supplier 2: Digi-Key; Supplier Part Number 2: NLAS4717FCT1GOSCT-ND; Supplier 3: Newark; Supplier Part Number 3: 26K5057; Supplier 4: Mouser; Supplier Part Number 4: 863-NLAS4717FCT1G; Packing: Tape and Reel; RoHS: TRUE; Mounting Technology: Surface Mount; ComponentLink1Description: Manufacturer URL; ComponentLink1URL: http://www.onsemi.com/; ComponentLink2Description: Datasheet; ComponentLink2URL: http://www.onsemi.com/pub_link/Collateral/NLAS4717-D.PDF; ComponentLink3Description: Package Specification; ComponentLink3URL: http://www.onsemi.cn/pub_link/Collateral/489AA.PDF
footprint ONSC-FLIP-CHIP-10-489AA-01 (BGA, 10-Balls, Body 1.97x1.47mm, Pitch 0.5mm)
pins: A1 NC2, A2 IN2 (in), A3 COM2, A4 NO2, B1 GND (power), B4 VCC (power), C1 NC1, C2 IN1 (in), C3 COM1, C4 NO1

## NLAS4717MR2
designator U?
4.5 Ohm High Bandwidth, Dual SPDT Analog Switch, 1.8 to 5.5 V, -40 to 85 degC, 10-Pin MICRO, Tape and Reel; Manufacturer: On Semiconductor; PartNumber: NLAS4717MR2; Icc Max (uA): 1; VCC Max (V): 5.5; VCC Min (V): 1.8; DatasheetVersion: Rev. 9; PackageVersion: Rev. D, 12/2004; PackageReference: MICRO-10-846B-03; PackageDescription: 10-Pin Micro Small Outline Package, Body 3 x 3 mm, Pitch 0.5 mm; Supplier 1: Digi-Key; Supplier Part Number 1: NLAS4717MR2-ND; Packing: Tape and Reel; RoHS: FALSE; Mounting Technology: Surface Mount; ComponentLink1Description: Manufacturer URL; ComponentLink1URL: http://www.onsemi.com/; ComponentLink2Description: Datasheet; ComponentLink2URL: http://www.onsemi.com/pub_link/Collateral/NLAS4717-D.PDF; ComponentLink3Description: Package Specification; ComponentLink3URL: http://www.onsemi.cn/pub_link/Collateral/846B-02.PDF
footprint ONSC-MICRO-10-846B-03_V (SOP, 10-Leads, Body 3.1x3.1mm, Pitch 0.5mm)
pins: 1 VCC (power), 2 NO1, 3 COM1, 4 IN1 (in), 5 NC1, 6 GND (power), 7 NC2, 8 IN2 (in), 9 COM2, 10 NO2

## NLAS4717MR2G
designator U?
4.5 Ohm High Bandwidth, Dual SPDT Analog Switch, 1.8 to 5.5 V, -40 to 85 degC, 10-Pin MICRO, Pb-Free, Tape and Reel; Manufacturer: On Semiconductor; PartNumber: NLAS4717MR2G; Icc Max (uA): 1; VCC Max (V): 5.5; VCC Min (V): 1.8; DatasheetVersion: Rev. 9; PackageVersion: Rev. D, 12/2004; PackageReference: MICRO-10-846B-03; PackageDescription: 10-Pin Micro Small Outline Package, Body 3 x 3 mm, Pitch 0.5 mm; Supplier 1: Digi-Key; Supplier Part Number 1: NLAS4717MR2GOSTR-ND; Supplier 2: Digi-Key; Supplier Part Number 2: NLAS4717MR2GOSCT-ND; Supplier 3: Mouser; Supplier Part Number 3: 863-NLAS4717MR2G; Packing: Tape and Reel; RoHS: TRUE; Mounting Technology: Surface Mount; ComponentLink1Description: Manufacturer URL; ComponentLink1URL: http://www.onsemi.com/; ComponentLink2Description: Datasheet; ComponentLink2URL: http://www.onsemi.com/pub_link/Collateral/NLAS4717-D.PDF; ComponentLink3Description: Package Specification; ComponentLink3URL: http://www.onsemi.cn/pub_link/Collateral/846B-02.PDF
footprint ONSC-MICRO-10-846B-03_V (SOP, 10-Leads, Body 3.1x3.1mm, Pitch 0.5mm)
pins: 1 VCC (power), 2 NO1, 3 COM1, 4 IN1 (in), 5 NC1, 6 GND (power), 7 NC2, 8 IN2 (in), 9 COM2, 10 NO2

## NLAS7213MUTBG
designator U?
High-Speed USB 2.0 (480 Mbps) DPST Switch, 1.65 to 4.5 V, -40 to 85 degC, 8-Pin UQFN, Pb-Free, Tape and Reel; Manufacturer: On Semiconductor; PartNumber: NLAS7213MUTBG; Icc Max (uA): 1; VCC Max (V): 4.5; VCC Min (V): 1.65; DatasheetVersion: Rev. 3; PackageVersion: Rev. O, 11/2007; PackageReference: UQFN-8-523AH-01; PackageDescription: 8-Pin Quad Flat No-Lead, Body 1.5 x 1.5 mm, Pitch 0.5 mm; Supplier 1: Digi-Key; Supplier Part Number 1: NLAS7213MUTBG-ND; Supplier 2: Mouser; Supplier Part Number 2: 863-NLAS7213MUTBG; Packing: Tape and Reel; RoHS: TRUE; Mounting Technology: Surface Mount; ComponentLink1Description: Manufacturer URL; ComponentLink1URL: http://www.onsemi.com/; ComponentLink2Description: Datasheet; ComponentLink2URL: http://www.onsemi.com/pub_link/Collateral/NLAS7213-D.PDF; ComponentLink3Description: Package Specification; ComponentLink3URL: http://www.onsemi.com/pub_link/Collateral/523AH.PDF
footprint ONSC-UQFN-8-523AH-01_V (QFN, 8-Leads, Body 1.5x1.5mm, Pitch 0.5mm)
pins: 1 ~{OE} (in) "Control Input Select Line", 2 HSD+ "Data Ports", 3 D+ "Data Ports", 4 GND (power), 5 D- "Data Ports", 6 HSD- "Data Ports", 7 NC, 8 VCC (power)

## NLAS7222AMTR2G
designator U?
High-Speed USB 2.0 (480 Mbps) DPDT Switch, 3 to 3.6 V, -40 to 85 degC, 10-Pin WQFN, Pb-Free, Tape and Reel; Manufacturer: On Semiconductor; PartNumber: NLAS7222AMTR2G; Icc Max (uA): 1; VCC Max (V): 3.6; VCC Min (V): 3; DatasheetVersion: Rev. 5; PackageVersion: Rev. C, 06/2007; PackageReference: WQFN-10-488AQ-01; PackageDescription: 10-Pin Quad Flat No-Lead, Body 1.4 x 1.8 mm, Pitch 0.4 mm; Supplier 1: Digi-Key; Supplier Part Number 1: NLAS7222AMTR2GOSTR-ND; Supplier 2: Digi-Key; Supplier Part Number 2: NLAS7222AMTR2GOSCT-ND; Supplier 3: Newark; Supplier Part Number 3: 27M2660; Supplier 4: Mouser; Supplier Part Number 4: 863-NLAS7222AMTR2G; Packing: Tape and Reel; RoHS: TRUE; Mounting Technology: Surface Mount; ComponentLink1Description: Manufacturer URL; ComponentLink1URL: http://www.onsemi.com/; ComponentLink2Description: Datasheet; ComponentLink2URL: http://www.onsemi.com/pub_link/Collateral/NLAS7222A-D.PDF; ComponentLink3Description: Package Specification; ComponentLink3URL: http://www.onsemi.cn/pub_link/Collateral/488AQ.PDF
footprint ONSC-WQFN-10-488AQ-01_V (QFN, 10-Leads, Body 1.8x1.4mm, Pitch 0.4mm)
pins: 1 HSD1+ "Data Port", 2 HSD2+ "Data Port", 3 D+ "Data Port", 4 GND (power), 5 D- "Data Port", 6 HSD2- "Data Port", 7 HSD1- "Data Port", 8 ~{OE} (in) "Output Enable", 9 VCC (power), 10 S (in) "Select Input"

## NLAS7222AMUR2G
designator U?
High-Speed USB 2.0 (480 Mbps) DPDT Switch, 3 to 3.6 V, -40 to 85 degC, 10-Pin UQFN, Pb-Free, Tape and Reel; Manufacturer: On Semiconductor; PartNumber: NLAS7222AMUR2G; Icc Max (uA): 1; VCC Max (V): 3.6; VCC Min (V): 3; DatasheetVersion: Rev. 5; PackageVersion: Rev. A, 08/2007; PackageReference: UQFN-10-488AT-01; PackageDescription: 10-Pin Quad Flat No-Lead, Body 1.4 x 1.8 mm, Pitch 0.4 mm; Supplier 1: Digi-Key; Supplier Part Number 1: NLAS7222AMUR2GOSTR-ND; Supplier 2: Digi-Key; Supplier Part Number 2: NLAS7222AMUR2GOSCT-ND; Supplier 3: Mouser; Supplier Part Number 3: 863-NLAS7222AMUR2G; Packing: Tape and Reel; RoHS: TRUE; Mounting Technology: Surface Mount; ComponentLink1Description: Manufacturer URL; ComponentLink1URL: http://www.onsemi.com/; ComponentLink2Description: Datasheet; ComponentLink2URL: http://www.onsemi.com/pub_link/Collateral/NLAS7222A-D.PDF; ComponentLink3Description: Package Specification; ComponentLink3URL: http://www.onsemi.cn/pub_link/Collateral/488AT.PDF
footprint ONSC-UQFN-10-488AT-01_V (QFN, 10-Leads, Body 1.8x1.4mm, Pitch 0.4mm)
pins: 1 HSD1+ "Data Port", 2 HSD2+ "Data Port", 3 D+ "Data Port", 4 GND (power), 5 D- "Data Port", 6 HSD2- "Data Port", 7 HSD1- "Data Port", 8 ~{OE} (in) "Output Enable", 9 VCC (power), 10 S (in) "Select Input"